# Altium integrated library Linear Technology Power Management Switching Regulator LT1074-LT8705.IntLib: 2252 symbols (part 132 of 148)
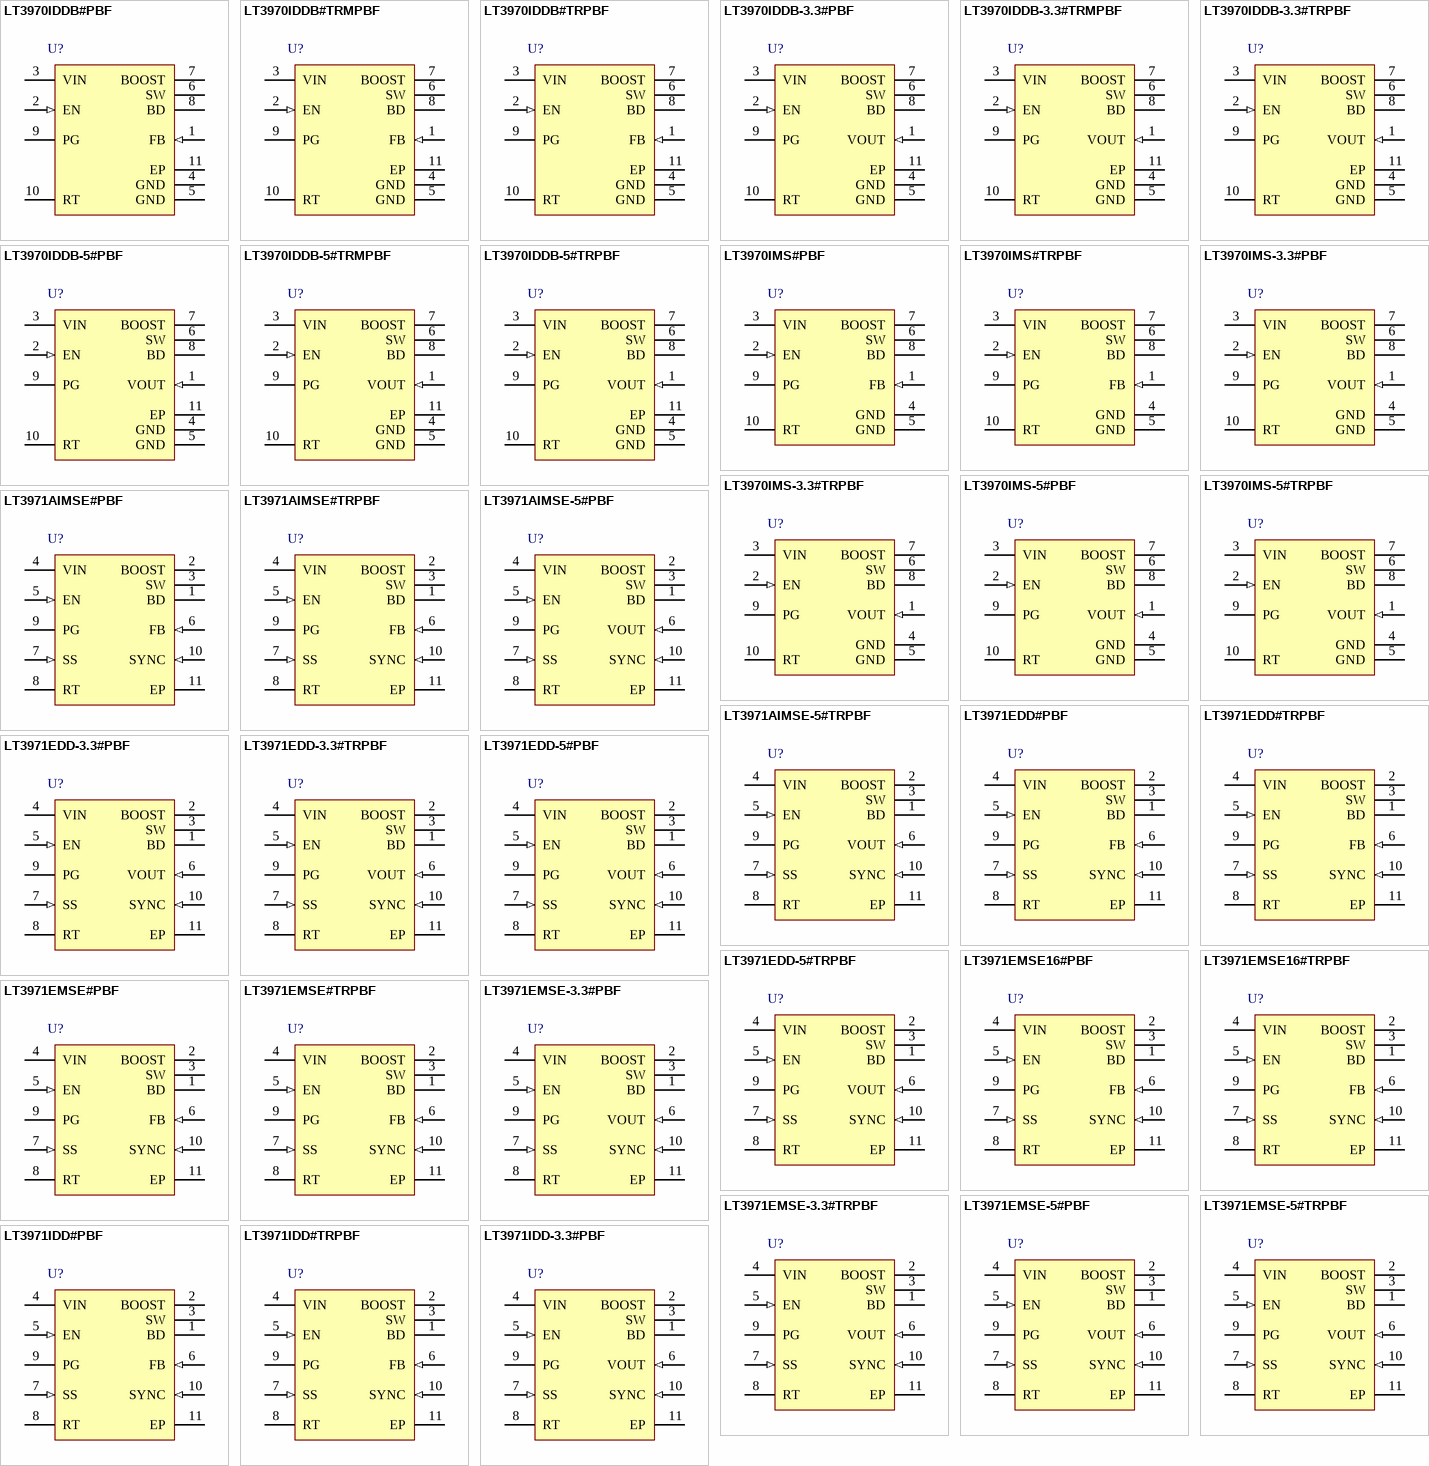
[diagram p202: symbols LT3970IDDB#PBF to LT3971IDD-3.3#PBF]

## LT3971AIMSE-5#PBF
designator U?
1.3 A, 2 MHz Step-Down Regulator with 2.2 uA Quiescent Current, 10-pin SOP (MSE-10-EDP), -40 to 125 degC, Pb-Free; Manufacturer: Linear Technology; PartNumber: LT3971AIMSE-5#PBF; Frequency Adjust Range: 200kHz - 2MHz; Number of Outputs: 1; PackageVersion: Rev. I, 05/2013; PackageReference: MSE-10; PackageDescription: 10-Pin Plastic MSOP, Exposed Die Pad, Body 3 x 3 mm, Pitch 0.5 mm; Supplier 1: Digi-Key; Supplier Part Number 1: LT3971AIMSE-5#PBF-ND; RoHS: TRUE; Mounting Technology: Surface Mount; ComponentLink1Description: Manufacturer URL; ComponentLink1URL: http://www.linear.com/; ComponentLink2Description: Datasheet; ComponentLink2URL: http://cds.linear.com/docs/en/datasheet/3971af.pdf; ComponentLink3Description: Package Specification; ComponentLink3URL: http://cds.linear.com/docs/en/packaging/05081664_I_MSE.pdf
footprint LT-MSE-10-EDP_N (SOP, 10-Leads, Body 3.1x3.1mm, Pitch 0.5mm, Thermal Pad 1.88x1.68mm, IPC Medium Density)
footprint LT-MSE-10-EDP_L (SOP, 10-Leads, Body 3.1x3.1mm, Pitch 0.5mm, Thermal Pad 1.88x1.68mm, IPC High Density)
footprint LT-MSE-10-EDP_M (SOP, 10-Leads, Body 3.1x3.1mm, Pitch 0.5mm, Thermal Pad 1.88x1.68mm, IPC Low Density)
pins: 1 BD (power) "This pin connects to the anode of the boost diode. The BD pin is normally connected to the output.", 2 BOOST "This pin is used to provide a drive voltage, higher than the input voltage, to the internal bipolar NPN power switch.", 3 SW (power) "The SW pin is the output of an internal power switch. Connect this pin to the inductor, catch diode, and boost capacitor.", 4 VIN (power) "The VIN pin supplies current to the LT3971’s internal circuitry and to the internal power switch. This pin must be locally bypassed.", 5 EN (in) "The part is in shutdown when this pin is low and active when this pin is high. The hysteretic threshold voltage is 1.005V going up and 0.975V going down. The EN threshold is only accurate when VIN is above 4.3V. If VIN is (See Datasheet)", 6 VOUT (in) "The LT3971-3.3 and LT3971-5 regulate the VOUT pin to 3.3V and 5V respectively. This pin connects to the internal 10Mohm feedback divider that programs the fixed output voltage.", 7 SS (in) "A capacitor is tied between SS and ground to slowly ramp up the peak current limit of the LT3971 on start-up. The soft-start capacitor is only actively discharged when EN is low. The SS pin is released when the EN pin goes (See Datasheet)", 8 RT "A resistor is tied between RT and ground to set the switching frequency.", 9 PG (oc) "The PG pin is the open-drain output of an internal comparator. PGOOD remains low until the FB pin is within 9% of the final regulation voltage. PGOOD is valid when the LT3971 is enabled and VIN is above 4.3V.", 10 SYNC (in) "This is the external clock synchronization input. Ground this pin for low ripple Burst Mode operation at low output loads. Tie to a clock source for synchronization, which will include pulse-skipping at low output loads. (See Datasheet)", 11 EP (power) "Ground. The exposed pad must be soldered to PCB."

## LT3971AIMSE-5#TRPBF
designator U?
1.3 A, 2 MHz Step-Down Regulator with 2.2 uA Quiescent Current, 10-pin SOP (MSE-10-EDP), -40 to 125 degC, Pb-Free, Tape and Reel; Manufacturer: Linear Technology; PartNumber: LT3971AIMSE-5#TRPBF; Frequency Adjust Range: 200kHz - 2MHz; Number of Outputs: 1; PackageVersion: Rev. I, 05/2013; PackageReference: MSE-10; PackageDescription: 10-Pin Plastic MSOP, Exposed Die Pad, Body 3 x 3 mm, Pitch 0.5 mm; Supplier 1: Digi-Key; Supplier Part Number 1: LT3971AIMSE-5#TRPBF-ND; Packing: Tape and Reel; RoHS: TRUE; Mounting Technology: Surface Mount; ComponentLink1Description: Manufacturer URL; ComponentLink1URL: http://www.linear.com/; ComponentLink2Description: Datasheet; ComponentLink2URL: http://cds.linear.com/docs/en/datasheet/3971af.pdf; ComponentLink3Description: Package Specification; ComponentLink3URL: http://cds.linear.com/docs/en/packaging/05081664_I_MSE.pdf
footprint LT-MSE-10-EDP_N (SOP, 10-Leads, Body 3.1x3.1mm, Pitch 0.5mm, Thermal Pad 1.88x1.68mm, IPC Medium Density)
footprint LT-MSE-10-EDP_L (SOP, 10-Leads, Body 3.1x3.1mm, Pitch 0.5mm, Thermal Pad 1.88x1.68mm, IPC High Density)
footprint LT-MSE-10-EDP_M (SOP, 10-Leads, Body 3.1x3.1mm, Pitch 0.5mm, Thermal Pad 1.88x1.68mm, IPC Low Density)
pins: 1 BD (power) "This pin connects to the anode of the boost diode. The BD pin is normally connected to the output.", 2 BOOST "This pin is used to provide a drive voltage, higher than the input voltage, to the internal bipolar NPN power switch.", 3 SW (power) "The SW pin is the output of an internal power switch. Connect this pin to the inductor, catch diode, and boost capacitor.", 4 VIN (power) "The VIN pin supplies current to the LT3971’s internal circuitry and to the internal power switch. This pin must be locally bypassed.", 5 EN (in) "The part is in shutdown when this pin is low and active when this pin is high. The hysteretic threshold voltage is 1.005V going up and 0.975V going down. The EN threshold is only accurate when VIN is above 4.3V. If VIN is (See Datasheet)", 6 VOUT (in) "The LT3971-3.3 and LT3971-5 regulate the VOUT pin to 3.3V and 5V respectively. This pin connects to the internal 10Mohm feedback divider that programs the fixed output voltage.", 7 SS (in) "A capacitor is tied between SS and ground to slowly ramp up the peak current limit of the LT3971 on start-up. The soft-start capacitor is only actively discharged when EN is low. The SS pin is released when the EN pin goes (See Datasheet)", 8 RT "A resistor is tied between RT and ground to set the switching frequency.", 9 PG (oc) "The PG pin is the open-drain output of an internal comparator. PGOOD remains low until the FB pin is within 9% of the final regulation voltage. PGOOD is valid when the LT3971 is enabled and VIN is above 4.3V.", 10 SYNC (in) "This is the external clock synchronization input. Ground this pin for low ripple Burst Mode operation at low output loads. Tie to a clock source for synchronization, which will include pulse-skipping at low output loads. (See Datasheet)", 11 EP (power) "Ground. The exposed pad must be soldered to PCB."

## LT3971EDD#PBF
designator U?
1.2 A, 2 MHz Step-Down Regulator with 2.8 uA Quiescent Current, 10-pin SON (DD-10), -40 to 125 degC, Pb-Free; Manufacturer: Linear Technology; PartNumber: LT3971EDD#PBF; Frequency Adjust Range: 200kHz - 2MHz; Number of Outputs: 1; DatasheetVersion: Rev. D; PackageVersion: Rev. C, 06/2010; PackageReference: DD-10; PackageDescription: 10-Pin Plastic DFN, Body 3 x 3 mm, Pitch 0.5 mm; Supplier 1: Digi-Key; Supplier Part Number 1: LT3971EDD#PBF-ND; Supplier 2: Farnell; Supplier Part Number 2: 1839164; Supplier 3: Newark; Supplier Part Number 3: 53R1596; RoHS: TRUE; Mounting Technology: Surface Mount; Code_JEDEC: MO-229; ComponentLink1Description: Manufacturer URL; ComponentLink1URL: http://www.linear.com/; ComponentLink2Description: Datasheet; ComponentLink2URL: http://cds.linear.com/docs/en/datasheet/3971fd.pdf; ComponentLink3Description: Package Specification; ComponentLink3URL: http://cds.linear.com/docs/en/packaging/DFN_10_05-08-1699.pdf
footprint LT-DD-10_V (SON, 10-Leads, Body 3x3mm, Pitch 0.5mm, Thermal Pad 2.38x1.65mm)
pins: 1 BD (power) "This pin connects to the anode of the boost diode. The BD pin is normally connected to the output.", 2 BOOST "This pin is used to provide a drive voltage, higher than the input voltage, to the internal bipolar NPN power switch.", 3 SW (power) "The SW pin is the output of an internal power switch. Connect this pin to the inductor, catch diode, and boost capacitor.", 4 VIN (power), 5 EN (in), 6 FB (in), 7 SS (in), 8 RT "A resistor is tied between RT and ground to set the switching frequency.", 9 PG (oc), 10 SYNC (in) "This is the external clock synchronization input. Ground this pin for low ripple Burst Mode operation at low output loads. Tie to a clock source for synchronization, which will include pulse-skipping at low output loads. (See Datasheet)", 11 EP (power) "Ground. The exposed pad must be soldered to PCB."

## LT3971EDD#TRPBF
designator U?
1.2 A, 2 MHz Step-Down Regulator with 2.8 uA Quiescent Current, 10-pin SON (DD-10), -40 to 125 degC, Pb-Free, Tape and Reel; Manufacturer: Linear Technology; PartNumber: LT3971EDD#TRPBF; Frequency Adjust Range: 200kHz - 2MHz; Number of Outputs: 1; DatasheetVersion: Rev. D; PackageVersion: Rev. C, 06/2010; PackageReference: DD-10; PackageDescription: 10-Pin Plastic DFN, Body 3 x 3 mm, Pitch 0.5 mm; Supplier 1: Digi-Key; Supplier Part Number 1: LT3971EDD#TRPBF-ND; Supplier 2: Newark; Supplier Part Number 2: 13T8581; Packing: Tape and Reel; RoHS: TRUE; Mounting Technology: Surface Mount; Code_JEDEC: MO-229; ComponentLink1Description: Manufacturer URL; ComponentLink1URL: http://www.linear.com/; ComponentLink2Description: Datasheet; ComponentLink2URL: http://cds.linear.com/docs/en/datasheet/3971fd.pdf; ComponentLink3Description: Package Specification; ComponentLink3URL: http://cds.linear.com/docs/en/packaging/DFN_10_05-08-1699.pdf
footprint LT-DD-10_V (SON, 10-Leads, Body 3x3mm, Pitch 0.5mm, Thermal Pad 2.38x1.65mm)
pins: 1 BD (power) "This pin connects to the anode of the boost diode. The BD pin is normally connected to the output.", 2 BOOST "This pin is used to provide a drive voltage, higher than the input voltage, to the internal bipolar NPN power switch.", 3 SW (power) "The SW pin is the output of an internal power switch. Connect this pin to the inductor, catch diode, and boost capacitor.", 4 VIN (power), 5 EN (in), 6 FB (in), 7 SS (in), 8 RT "A resistor is tied between RT and ground to set the switching frequency.", 9 PG (oc), 10 SYNC (in) "This is the external clock synchronization input. Ground this pin for low ripple Burst Mode operation at low output loads. Tie to a clock source for synchronization, which will include pulse-skipping at low output loads. (See Datasheet)", 11 EP (power) "Ground. The exposed pad must be soldered to PCB."

## LT3971EDD-3.3#PBF
designator U?
1.2 A, 2 MHz Step-Down Regulator with 2.8 uA Quiescent Current, 10-pin SON (DD-10), -40 to 125 degC, Pb-Free; Manufacturer: Linear Technology; PartNumber: LT3971EDD-3.3#PBF; Frequency Adjust Range: 200kHz - 2MHz; Number of Outputs: 1; DatasheetVersion: Rev. D; PackageVersion: Rev. C, 06/2010; PackageReference: DD-10; PackageDescription: 10-Pin Plastic DFN, Body 3 x 3 mm, Pitch 0.5 mm; Supplier 1: Digi-Key; Supplier Part Number 1: LT3971EDD-3.3#PBF-ND; RoHS: TRUE; Mounting Technology: Surface Mount; Code_JEDEC: MO-229; ComponentLink1Description: Manufacturer URL; ComponentLink1URL: http://www.linear.com/; ComponentLink2Description: Datasheet; ComponentLink2URL: http://cds.linear.com/docs/en/datasheet/3971fd.pdf; ComponentLink3Description: Package Specification; ComponentLink3URL: http://cds.linear.com/docs/en/packaging/DFN_10_05-08-1699.pdf
footprint LT-DD-10_V (SON, 10-Leads, Body 3x3mm, Pitch 0.5mm, Thermal Pad 2.38x1.65mm)
pins: 1 BD (power) "This pin connects to the anode of the boost diode. The BD pin is normally connected to the output.", 2 BOOST "This pin is used to provide a drive voltage, higher than the input voltage, to the internal bipolar NPN power switch.", 3 SW (power) "The SW pin is the output of an internal power switch. Connect this pin to the inductor, catch diode, and boost capacitor.", 4 VIN (power) "The VIN pin supplies current to the LT3971’s internal circuitry and to the internal power switch. This pin must be locally bypassed.", 5 EN (in) "The part is in shutdown when this pin is low and active when this pin is high. The hysteretic threshold voltage is 1.005V going up and 0.975V going down. The EN threshold is only accurate when VIN is above 4.3V. If VIN is (See Datasheet)", 6 VOUT (in) "The LT3971-3.3 and LT3971-5 regulate the VOUT pin to 3.3V and 5V respectively. This pin connects to the internal 10Mohm feedback divider that programs the fixed output voltage.", 7 SS (in) "A capacitor is tied between SS and ground to slowly ramp up the peak current limit of the LT3971 on start-up. The soft-start capacitor is only actively discharged when EN is low. The SS pin is released when the EN pin goes (See Datasheet)", 8 RT "A resistor is tied between RT and ground to set the switching frequency.", 9 PG (oc) "The PG pin is the open-drain output of an internal comparator. PGOOD remains low until the FB pin is within 9% of the final regulation voltage. PGOOD is valid when the LT3971 is enabled and VIN is above 4.3V.", 10 SYNC (in) "This is the external clock synchronization input. Ground this pin for low ripple Burst Mode operation at low output loads. Tie to a clock source for synchronization, which will include pulse-skipping at low output loads. (See Datasheet)", 11 EP (power) "Ground. The exposed pad must be soldered to PCB."

## LT3971EDD-3.3#TRPBF
designator U?
1.2 A, 2 MHz Step-Down Regulator with 2.8 uA Quiescent Current, 10-pin SON (DD-10), -40 to 125 degC, Pb-Free, Tape and Reel; Manufacturer: Linear Technology; PartNumber: LT3971EDD-3.3#TRPBF; Frequency Adjust Range: 200kHz - 2MHz; Number of Outputs: 1; DatasheetVersion: Rev. D; PackageVersion: Rev. C, 06/2010; PackageReference: DD-10; PackageDescription: 10-Pin Plastic DFN, Body 3 x 3 mm, Pitch 0.5 mm; Supplier 1: Digi-Key; Supplier Part Number 1: LT3971EDD-3.3#TRPBF-ND; Packing: Tape and Reel; RoHS: TRUE; Mounting Technology: Surface Mount; Code_JEDEC: MO-229; ComponentLink1Description: Manufacturer URL; ComponentLink1URL: http://www.linear.com/; ComponentLink2Description: Datasheet; ComponentLink2URL: http://cds.linear.com/docs/en/datasheet/3971fd.pdf; ComponentLink3Description: Package Specification; ComponentLink3URL: http://cds.linear.com/docs/en/packaging/DFN_10_05-08-1699.pdf
footprint LT-DD-10_V (SON, 10-Leads, Body 3x3mm, Pitch 0.5mm, Thermal Pad 2.38x1.65mm)
pins: 1 BD (power) "This pin connects to the anode of the boost diode. The BD pin is normally connected to the output.", 2 BOOST "This pin is used to provide a drive voltage, higher than the input voltage, to the internal bipolar NPN power switch.", 3 SW (power) "The SW pin is the output of an internal power switch. Connect this pin to the inductor, catch diode, and boost capacitor.", 4 VIN (power) "The VIN pin supplies current to the LT3971’s internal circuitry and to the internal power switch. This pin must be locally bypassed.", 5 EN (in) "The part is in shutdown when this pin is low and active when this pin is high. The hysteretic threshold voltage is 1.005V going up and 0.975V going down. The EN threshold is only accurate when VIN is above 4.3V. If VIN is (See Datasheet)", 6 VOUT (in) "The LT3971-3.3 and LT3971-5 regulate the VOUT pin to 3.3V and 5V respectively. This pin connects to the internal 10Mohm feedback divider that programs the fixed output voltage.", 7 SS (in) "A capacitor is tied between SS and ground to slowly ramp up the peak current limit of the LT3971 on start-up. The soft-start capacitor is only actively discharged when EN is low. The SS pin is released when the EN pin goes (See Datasheet)", 8 RT "A resistor is tied between RT and ground to set the switching frequency.", 9 PG (oc) "The PG pin is the open-drain output of an internal comparator. PGOOD remains low until the FB pin is within 9% of the final regulation voltage. PGOOD is valid when the LT3971 is enabled and VIN is above 4.3V.", 10 SYNC (in) "This is the external clock synchronization input. Ground this pin for low ripple Burst Mode operation at low output loads. Tie to a clock source for synchronization, which will include pulse-skipping at low output loads. (See Datasheet)", 11 EP (power) "Ground. The exposed pad must be soldered to PCB."

## LT3971EDD-5#PBF
designator U?
1.2 A, 2 MHz Step-Down Regulator with 2.8 uA Quiescent Current, 10-pin SON (DD-10), -40 to 125 degC, Pb-Free; Manufacturer: Linear Technology; PartNumber: LT3971EDD-5#PBF; Frequency Adjust Range: 200kHz - 2MHz; Number of Outputs: 1; DatasheetVersion: Rev. D; PackageVersion: Rev. C, 06/2010; PackageReference: DD-10; PackageDescription: 10-Pin Plastic DFN, Body 3 x 3 mm, Pitch 0.5 mm; Supplier 1: Digi-Key; Supplier Part Number 1: LT3971EDD-5#PBF-ND; Supplier 2: Newark; Supplier Part Number 2: 78T4069; RoHS: TRUE; Mounting Technology: Surface Mount; Code_JEDEC: MO-229; ComponentLink1Description: Manufacturer URL; ComponentLink1URL: http://www.linear.com/; ComponentLink2Description: Datasheet; ComponentLink2URL: http://cds.linear.com/docs/en/datasheet/3971fd.pdf; ComponentLink3Description: Package Specification; ComponentLink3URL: http://cds.linear.com/docs/en/packaging/DFN_10_05-08-1699.pdf
footprint LT-DD-10_V (SON, 10-Leads, Body 3x3mm, Pitch 0.5mm, Thermal Pad 2.38x1.65mm)
pins: 1 BD (power) "This pin connects to the anode of the boost diode. The BD pin is normally connected to the output.", 2 BOOST "This pin is used to provide a drive voltage, higher than the input voltage, to the internal bipolar NPN power switch.", 3 SW (power) "The SW pin is the output of an internal power switch. Connect this pin to the inductor, catch diode, and boost capacitor.", 4 VIN (power) "The VIN pin supplies current to the LT3971’s internal circuitry and to the internal power switch. This pin must be locally bypassed.", 5 EN (in) "The part is in shutdown when this pin is low and active when this pin is high. The hysteretic threshold voltage is 1.005V going up and 0.975V going down. The EN threshold is only accurate when VIN is above 4.3V. If VIN is (See Datasheet)", 6 VOUT (in) "The LT3971?3.3 and LT3971-5 regulate the VOUT pin to 3.3V and 5V respectively. This pin connects to the internal 10Mohm feedback divider that programs the fixed output voltage.", 7 SS (in) "A capacitor is tied between SS and ground to slowly ramp up the peak current limit of the LT3971 on start-up. The soft-start capacitor is only actively discharged when EN is low. The SS pin is released when the EN pin goes (See Datasheet)", 8 RT "A resistor is tied between RT and ground to set the switching frequency.", 9 PG (oc) "The PG pin is the open-drain output of an internal comparator. PGOOD remains low until the FB pin is within 9% of the final regulation voltage. PGOOD is valid when the LT3971 is enabled and VIN is above 4.3V.", 10 SYNC (in) "This is the external clock synchronization input. Ground this pin for low ripple Burst Mode operation at low output loads. Tie to a clock source for synchronization, which will include pulse-skipping at low output loads. (See Datasheet)", 11 EP (power) "Ground. The exposed pad must be soldered to PCB."

## LT3971EDD-5#TRPBF
designator U?
1.2 A, 2 MHz Step-Down Regulator with 2.8 uA Quiescent Current, 10-pin SON (DD-10), -40 to 125 degC, Pb-Free, Tape and Reel; Manufacturer: Linear Technology; PartNumber: LT3971EDD-5#TRPBF; Frequency Adjust Range: 200kHz - 2MHz; Number of Outputs: 1; DatasheetVersion: Rev. D; PackageVersion: Rev. C, 06/2010; PackageReference: DD-10; PackageDescription: 10-Pin Plastic DFN, Body 3 x 3 mm, Pitch 0.5 mm; Supplier 1: Digi-Key; Supplier Part Number 1: LT3971EDD-5#TRPBF-ND; Packing: Tape and Reel; RoHS: TRUE; Mounting Technology: Surface Mount; Code_JEDEC: MO-229; ComponentLink1Description: Manufacturer URL; ComponentLink1URL: http://www.linear.com/; ComponentLink2Description: Datasheet; ComponentLink2URL: http://cds.linear.com/docs/en/datasheet/3971fd.pdf; ComponentLink3Description: Package Specification; ComponentLink3URL: http://cds.linear.com/docs/en/packaging/DFN_10_05-08-1699.pdf
footprint LT-DD-10_V (SON, 10-Leads, Body 3x3mm, Pitch 0.5mm, Thermal Pad 2.38x1.65mm)
pins: 1 BD (power) "This pin connects to the anode of the boost diode. The BD pin is normally connected to the output.", 2 BOOST "This pin is used to provide a drive voltage, higher than the input voltage, to the internal bipolar NPN power switch.", 3 SW (power) "The SW pin is the output of an internal power switch. Connect this pin to the inductor, catch diode, and boost capacitor.", 4 VIN (power) "The VIN pin supplies current to the LT3971’s internal circuitry and to the internal power switch. This pin must be locally bypassed.", 5 EN (in) "The part is in shutdown when this pin is low and active when this pin is high. The hysteretic threshold voltage is 1.005V going up and 0.975V going down. The EN threshold is only accurate when VIN is above 4.3V. If VIN is (See Datasheet)", 6 VOUT (in) "The LT3971?3.3 and LT3971-5 regulate the VOUT pin to 3.3V and 5V respectively. This pin connects to the internal 10Mohm feedback divider that programs the fixed output voltage.", 7 SS (in) "A capacitor is tied between SS and ground to slowly ramp up the peak current limit of the LT3971 on start-up. The soft-start capacitor is only actively discharged when EN is low. The SS pin is released when the EN pin goes (See Datasheet)", 8 RT "A resistor is tied between RT and ground to set the switching frequency.", 9 PG (oc) "The PG pin is the open-drain output of an internal comparator. PGOOD remains low until the FB pin is within 9% of the final regulation voltage. PGOOD is valid when the LT3971 is enabled and VIN is above 4.3V.", 10 SYNC (in) "This is the external clock synchronization input. Ground this pin for low ripple Burst Mode operation at low output loads. Tie to a clock source for synchronization, which will include pulse-skipping at low output loads. (See Datasheet)", 11 EP (power) "Ground. The exposed pad must be soldered to PCB."

## LT3971EMSE16#PBF
designator U?
1.2 A, 2 MHz Step-Down Regulator with 2.8 uA Quiescent Current, 16-pin SOP (MSE-16-EDP), -40 to 125 degC, Pb-Free; Manufacturer: Linear Technology; PartNumber: LT3971EMSE16#PBF; Frequency Adjust Range: 200kHz - 2MHz; Number of Outputs: 1; DatasheetVersion: Rev. D; PackageVersion: Rev. F, 05/2013; PackageReference: MSE-16; PackageDescription: 16-Pin Plastic MSOP, Exposed Die Pad, Body 4.039 x 3 mm, Pitch 0.5 mm; Supplier 1: Digi-Key; Supplier Part Number 1: LT3971EMSE16#PBF-ND; Supplier 2: Farnell; Supplier Part Number 2: 2145072; Supplier 3: Newark; Supplier Part Number 3: 24W8533; RoHS: TRUE; Mounting Technology: Surface Mount; ComponentLink1Description: Manufacturer URL; ComponentLink1URL: http://www.linear.com/; ComponentLink2Description: Datasheet; ComponentLink2URL: http://cds.linear.com/docs/en/datasheet/3971fd.pdf; ComponentLink3Description: Package Specification; ComponentLink3URL: http://cds.linear.com/docs/en/packaging/05081667_F_MSE16.pdf
footprint LT-MSE-16-EDP_N (SOP, 16-Leads, Body 4.1x3.1mm, Pitch 0.5mm, Thermal Pad 2.95x1.76mm, IPC Medium Density)
footprint LT-MSE-16-EDP_L (SOP, 16-Leads, Body 4.1x3.1mm, Pitch 0.5mm, Thermal Pad 2.95x1.76mm, IPC High Density)
footprint LT-MSE-16-EDP_M (SOP, 16-Leads, Body 4.1x3.1mm, Pitch 0.5mm, Thermal Pad 2.95x1.76mm, IPC Low Density)
pins: 1 BD (power) "This pin connects to the anode of the boost diode. The BD pin is normally connected to the output.", 2 BOOST "This pin is used to provide a drive voltage, higher than the input voltage, to the internal bipolar NPN power switch.", 3 SW (power) "The SW pin is the output of an internal power switch. Connect this pin to the inductor, catch diode, and boost capacitor.", 4 VIN (power), 5 EN (in), 6 FB (in), 7 SS (in), 8 RT "A resistor is tied between RT and ground to set the switching frequency.", 9 PG (oc), 10 SYNC (in) "This is the external clock synchronization input. Ground this pin for low ripple Burst Mode operation at low output loads. Tie to a clock source for synchronization, which will include pulse-skipping at low output loads. (See Datasheet)", 11 EP (power) "Ground. The exposed pad must be soldered to PCB."

## LT3971EMSE16#TRPBF
designator U?
1.2 A, 2 MHz Step-Down Regulator with 2.8 uA Quiescent Current, 16-pin SOP (MSE-16-EDP), -40 to 125 degC, Pb-Free, Tape and Reel; Manufacturer: Linear Technology; PartNumber: LT3971EMSE16#TRPBF; Frequency Adjust Range: 200kHz - 2MHz; Number of Outputs: 1; DatasheetVersion: Rev. D; PackageVersion: Rev. F, 05/2013; PackageReference: MSE-16; PackageDescription: 16-Pin Plastic MSOP, Exposed Die Pad, Body 4.039 x 3 mm, Pitch 0.5 mm; Supplier 1: Digi-Key; Supplier Part Number 1: LT3971EMSE16#TRPBF-ND; Supplier 2: Newark; Supplier Part Number 2: 24W8534; Packing: Tape and Reel; RoHS: TRUE; Mounting Technology: Surface Mount; ComponentLink1Description: Manufacturer URL; ComponentLink1URL: http://www.linear.com/; ComponentLink2Description: Datasheet; ComponentLink2URL: http://cds.linear.com/docs/en/datasheet/3971fd.pdf; ComponentLink3Description: Package Specification; ComponentLink3URL: http://cds.linear.com/docs/en/packaging/05081667_F_MSE16.pdf
footprint LT-MSE-16-EDP_N (SOP, 16-Leads, Body 4.1x3.1mm, Pitch 0.5mm, Thermal Pad 2.95x1.76mm, IPC Medium Density)
footprint LT-MSE-16-EDP_L (SOP, 16-Leads, Body 4.1x3.1mm, Pitch 0.5mm, Thermal Pad 2.95x1.76mm, IPC High Density)
footprint LT-MSE-16-EDP_M (SOP, 16-Leads, Body 4.1x3.1mm, Pitch 0.5mm, Thermal Pad 2.95x1.76mm, IPC Low Density)
pins: 1 BD (power) "This pin connects to the anode of the boost diode. The BD pin is normally connected to the output.", 2 BOOST "This pin is used to provide a drive voltage, higher than the input voltage, to the internal bipolar NPN power switch.", 3 SW (power) "The SW pin is the output of an internal power switch. Connect this pin to the inductor, catch diode, and boost capacitor.", 4 VIN (power), 5 EN (in), 6 FB (in), 7 SS (in), 8 RT "A resistor is tied between RT and ground to set the switching frequency.", 9 PG (oc), 10 SYNC (in) "This is the external clock synchronization input. Ground this pin for low ripple Burst Mode operation at low output loads. Tie to a clock source for synchronization, which will include pulse-skipping at low output loads. (See Datasheet)", 11 EP (power) "Ground. The exposed pad must be soldered to PCB."

## LT3971EMSE#PBF
designator U?
1.2 A, 2 MHz Step-Down Regulator with 2.8 uA Quiescent Current, 10-pin SOP (MSE-10-EDP), -40 to 125 degC, Pb-Free; Manufacturer: Linear Technology; PartNumber: LT3971EMSE#PBF; Frequency Adjust Range: 200kHz - 2MHz; Number of Outputs: 1; DatasheetVersion: Rev. D; PackageVersion: Rev. I, 05/2013; PackageReference: MSE-10; PackageDescription: 10-Pin Plastic MSOP, Exposed Die Pad, Body 3 x 3 mm, Pitch 0.5 mm; Supplier 1: Digi-Key; Supplier Part Number 1: LT3971EMSE#PBF-ND; Supplier 2: Farnell; Supplier Part Number 2: 1839165; Supplier 3: Newark; Supplier Part Number 3: 53R1597; RoHS: TRUE; Mounting Technology: Surface Mount; ComponentLink1Description: Manufacturer URL; ComponentLink1URL: http://www.linear.com/; ComponentLink2Description: Datasheet; ComponentLink2URL: http://cds.linear.com/docs/en/datasheet/3971fd.pdf; ComponentLink3Description: Package Specification; ComponentLink3URL: http://cds.linear.com/docs/en/packaging/05081664_I_MSE.pdf
footprint LT-MSE-10-EDP_N (SOP, 10-Leads, Body 3.1x3.1mm, Pitch 0.5mm, Thermal Pad 1.88x1.68mm, IPC Medium Density)
footprint LT-MSE-10-EDP_L (SOP, 10-Leads, Body 3.1x3.1mm, Pitch 0.5mm, Thermal Pad 1.88x1.68mm, IPC High Density)
footprint LT-MSE-10-EDP_M (SOP, 10-Leads, Body 3.1x3.1mm, Pitch 0.5mm, Thermal Pad 1.88x1.68mm, IPC Low Density)
pins: 1 BD (power) "This pin connects to the anode of the boost diode. The BD pin is normally connected to the output.", 2 BOOST "This pin is used to provide a drive voltage, higher than the input voltage, to the internal bipolar NPN power switch.", 3 SW (power) "The SW pin is the output of an internal power switch. Connect this pin to the inductor, catch diode, and boost capacitor.", 4 VIN (power), 5 EN (in), 6 FB (in), 7 SS (in), 8 RT "A resistor is tied between RT and ground to set the switching frequency.", 9 PG (oc), 10 SYNC (in) "This is the external clock synchronization input. Ground this pin for low ripple Burst Mode operation at low output loads. Tie to a clock source for synchronization, which will include pulse-skipping at low output loads. (See Datasheet)", 11 EP (power) "Ground. The exposed pad must be soldered to PCB."

## LT3971EMSE#TRPBF
designator U?
1.2 A, 2 MHz Step-Down Regulator with 2.8 uA Quiescent Current, 10-pin SOP (MSE-10-EDP), -40 to 125 degC, Pb-Free, Tape and Reel; Manufacturer: Linear Technology; PartNumber: LT3971EMSE#TRPBF; Frequency Adjust Range: 200kHz - 2MHz; Number of Outputs: 1; DatasheetVersion: Rev. D; PackageVersion: Rev. I, 05/2013; PackageReference: MSE-10; PackageDescription: 10-Pin Plastic MSOP, Exposed Die Pad, Body 3 x 3 mm, Pitch 0.5 mm; Supplier 1: Digi-Key; Supplier Part Number 1: LT3971EMSE#TRPBF-ND; Packing: Tape and Reel; RoHS: TRUE; Mounting Technology: Surface Mount; ComponentLink1Description: Manufacturer URL; ComponentLink1URL: http://www.linear.com/; ComponentLink2Description: Datasheet; ComponentLink2URL: http://cds.linear.com/docs/en/datasheet/3971fd.pdf; ComponentLink3Description: Package Specification; ComponentLink3URL: http://cds.linear.com/docs/en/packaging/05081664_I_MSE.pdf
footprint LT-MSE-10-EDP_N (SOP, 10-Leads, Body 3.1x3.1mm, Pitch 0.5mm, Thermal Pad 1.88x1.68mm, IPC Medium Density)
footprint LT-MSE-10-EDP_L (SOP, 10-Leads, Body 3.1x3.1mm, Pitch 0.5mm, Thermal Pad 1.88x1.68mm, IPC High Density)
footprint LT-MSE-10-EDP_M (SOP, 10-Leads, Body 3.1x3.1mm, Pitch 0.5mm, Thermal Pad 1.88x1.68mm, IPC Low Density)
pins: 1 BD (power) "This pin connects to the anode of the boost diode. The BD pin is normally connected to the output.", 2 BOOST "This pin is used to provide a drive voltage, higher than the input voltage, to the internal bipolar NPN power switch.", 3 SW (power) "The SW pin is the output of an internal power switch. Connect this pin to the inductor, catch diode, and boost capacitor.", 4 VIN (power), 5 EN (in), 6 FB (in), 7 SS (in), 8 RT "A resistor is tied between RT and ground to set the switching frequency.", 9 PG (oc), 10 SYNC (in) "This is the external clock synchronization input. Ground this pin for low ripple Burst Mode operation at low output loads. Tie to a clock source for synchronization, which will include pulse-skipping at low output loads. (See Datasheet)", 11 EP (power) "Ground. The exposed pad must be soldered to PCB."

## LT3971EMSE-3.3#PBF
designator U?
1.2 A, 2 MHz Step-Down Regulator with 2.8 uA Quiescent Current, 10-pin SOP (MSE-10-EDP), -40 to 125 degC, Pb-Free; Manufacturer: Linear Technology; PartNumber: LT3971EMSE-3.3#PBF; Frequency Adjust Range: 200kHz - 2MHz; Number of Outputs: 1; DatasheetVersion: Rev. D; PackageVersion: Rev. I, 05/2013; PackageReference: MSE-10; PackageDescription: 10-Pin Plastic MSOP, Exposed Die Pad, Body 3 x 3 mm, Pitch 0.5 mm; Supplier 1: Digi-Key; Supplier Part Number 1: LT3971EMSE-3.3#PBF-ND; Supplier 2: Farnell; Supplier Part Number 2: 1867528; Supplier 3: Newark; Supplier Part Number 3: 24T2756; Supplier 4: Newark; Supplier Part Number 4: 95W2789; RoHS: TRUE; Mounting Technology: Surface Mount; ComponentLink1Description: Manufacturer URL; ComponentLink1URL: http://www.linear.com/; ComponentLink2Description: Datasheet; ComponentLink2URL: http://cds.linear.com/docs/en/datasheet/3971fd.pdf; ComponentLink3Description: Package Specification; ComponentLink3URL: http://cds.linear.com/docs/en/packaging/05081664_I_MSE.pdf
footprint LT-MSE-10-EDP_N (SOP, 10-Leads, Body 3.1x3.1mm, Pitch 0.5mm, Thermal Pad 1.88x1.68mm, IPC Medium Density)
footprint LT-MSE-10-EDP_L (SOP, 10-Leads, Body 3.1x3.1mm, Pitch 0.5mm, Thermal Pad 1.88x1.68mm, IPC High Density)
footprint LT-MSE-10-EDP_M (SOP, 10-Leads, Body 3.1x3.1mm, Pitch 0.5mm, Thermal Pad 1.88x1.68mm, IPC Low Density)
pins: 1 BD (power) "This pin connects to the anode of the boost diode. The BD pin is normally connected to the output.", 2 BOOST "This pin is used to provide a drive voltage, higher than the input voltage, to the internal bipolar NPN power switch.", 3 SW (power) "The SW pin is the output of an internal power switch. Connect this pin to the inductor, catch diode, and boost capacitor.", 4 VIN (power) "The VIN pin supplies current to the LT3971’s internal circuitry and to the internal power switch. This pin must be locally bypassed.", 5 EN (in) "The part is in shutdown when this pin is low and active when this pin is high. The hysteretic threshold voltage is 1.005V going up and 0.975V going down. The EN threshold is only accurate when VIN is above 4.3V. If VIN is (See Datasheet)", 6 VOUT (in) "The LT3971-3.3 and LT3971-5 regulate the VOUT pin to 3.3V and 5V respectively. This pin connects to the internal 10Mohm feedback divider that programs the fixed output voltage.", 7 SS (in) "A capacitor is tied between SS and ground to slowly ramp up the peak current limit of the LT3971 on start-up. The soft-start capacitor is only actively discharged when EN is low. The SS pin is released when the EN pin goes (See Datasheet)", 8 RT "A resistor is tied between RT and ground to set the switching frequency.", 9 PG (oc) "The PG pin is the open-drain output of an internal comparator. PGOOD remains low until the FB pin is within 9% of the final regulation voltage. PGOOD is valid when the LT3971 is enabled and VIN is above 4.3V.", 10 SYNC (in) "This is the external clock synchronization input. Ground this pin for low ripple Burst Mode operation at low output loads. Tie to a clock source for synchronization, which will include pulse-skipping at low output loads. (See Datasheet)", 11 EP (power) "Ground. The exposed pad must be soldered to PCB."

## LT3971EMSE-3.3#TRPBF
designator U?
1.2 A, 2 MHz Step-Down Regulator with 2.8 uA Quiescent Current, 10-pin SOP (MSE-10-EDP), -40 to 125 degC, Pb-Free, Tape and Reel; Manufacturer: Linear Technology; PartNumber: LT3971EMSE-3.3#TRPBF; Frequency Adjust Range: 200kHz - 2MHz; Number of Outputs: 1; DatasheetVersion: Rev. D; PackageVersion: Rev. I, 05/2013; PackageReference: MSE-10; PackageDescription: 10-Pin Plastic MSOP, Exposed Die Pad, Body 3 x 3 mm, Pitch 0.5 mm; Supplier 1: Digi-Key; Supplier Part Number 1: LT3971EMSE-3.3#TRPBF-ND; Packing: Tape and Reel; RoHS: TRUE; Mounting Technology: Surface Mount; ComponentLink1Description: Manufacturer URL; ComponentLink1URL: http://www.linear.com/; ComponentLink2Description: Datasheet; ComponentLink2URL: http://cds.linear.com/docs/en/datasheet/3971fd.pdf; ComponentLink3Description: Package Specification; ComponentLink3URL: http://cds.linear.com/docs/en/packaging/05081664_I_MSE.pdf
footprint LT-MSE-10-EDP_N (SOP, 10-Leads, Body 3.1x3.1mm, Pitch 0.5mm, Thermal Pad 1.88x1.68mm, IPC Medium Density)
footprint LT-MSE-10-EDP_L (SOP, 10-Leads, Body 3.1x3.1mm, Pitch 0.5mm, Thermal Pad 1.88x1.68mm, IPC High Density)
footprint LT-MSE-10-EDP_M (SOP, 10-Leads, Body 3.1x3.1mm, Pitch 0.5mm, Thermal Pad 1.88x1.68mm, IPC Low Density)
pins: 1 BD (power) "This pin connects to the anode of the boost diode. The BD pin is normally connected to the output.", 2 BOOST "This pin is used to provide a drive voltage, higher than the input voltage, to the internal bipolar NPN power switch.", 3 SW (power) "The SW pin is the output of an internal power switch. Connect this pin to the inductor, catch diode, and boost capacitor.", 4 VIN (power) "The VIN pin supplies current to the LT3971’s internal circuitry and to the internal power switch. This pin must be locally bypassed.", 5 EN (in) "The part is in shutdown when this pin is low and active when this pin is high. The hysteretic threshold voltage is 1.005V going up and 0.975V going down. The EN threshold is only accurate when VIN is above 4.3V. If VIN is (See Datasheet)", 6 VOUT (in) "The LT3971-3.3 and LT3971-5 regulate the VOUT pin to 3.3V and 5V respectively. This pin connects to the internal 10Mohm feedback divider that programs the fixed output voltage.", 7 SS (in) "A capacitor is tied between SS and ground to slowly ramp up the peak current limit of the LT3971 on start-up. The soft-start capacitor is only actively discharged when EN is low. The SS pin is released when the EN pin goes (See Datasheet)", 8 RT "A resistor is tied between RT and ground to set the switching frequency.", 9 PG (oc) "The PG pin is the open-drain output of an internal comparator. PGOOD remains low until the FB pin is within 9% of the final regulation voltage. PGOOD is valid when the LT3971 is enabled and VIN is above 4.3V.", 10 SYNC (in) "This is the external clock synchronization input. Ground this pin for low ripple Burst Mode operation at low output loads. Tie to a clock source for synchronization, which will include pulse-skipping at low output loads. (See Datasheet)", 11 EP (power) "Ground. The exposed pad must be soldered to PCB."

## LT3971EMSE-5#PBF
designator U?
1.2 A, 2 MHz Step-Down Regulator with 2.8 uA Quiescent Current, 10-pin SOP (MSE-10-EDP), -40 to 125 degC, Pb-Free; Manufacturer: Linear Technology; PartNumber: LT3971EMSE-5#PBF; Frequency Adjust Range: 200kHz - 2MHz; Number of Outputs: 1; DatasheetVersion: Rev. D; PackageVersion: Rev. I, 05/2013; PackageReference: MSE-10; PackageDescription: 10-Pin Plastic MSOP, Exposed Die Pad, Body 3 x 3 mm, Pitch 0.5 mm; Supplier 1: Digi-Key; Supplier Part Number 1: LT3971EMSE-5#PBF-ND; Supplier 2: Farnell; Supplier Part Number 2: 1867529; Supplier 3: Newark; Supplier Part Number 3: 24T2757; RoHS: TRUE; Mounting Technology: Surface Mount; ComponentLink1Description: Manufacturer URL; ComponentLink1URL: http://www.linear.com/; ComponentLink2Description: Datasheet; ComponentLink2URL: http://cds.linear.com/docs/en/datasheet/3971fd.pdf; ComponentLink3Description: Package Specification; ComponentLink3URL: http://cds.linear.com/docs/en/packaging/05081664_I_MSE.pdf
footprint LT-MSE-10-EDP_N (SOP, 10-Leads, Body 3.1x3.1mm, Pitch 0.5mm, Thermal Pad 1.88x1.68mm, IPC Medium Density)
footprint LT-MSE-10-EDP_L (SOP, 10-Leads, Body 3.1x3.1mm, Pitch 0.5mm, Thermal Pad 1.88x1.68mm, IPC High Density)
footprint LT-MSE-10-EDP_M (SOP, 10-Leads, Body 3.1x3.1mm, Pitch 0.5mm, Thermal Pad 1.88x1.68mm, IPC Low Density)
pins: 1 BD (power) "This pin connects to the anode of the boost diode. The BD pin is normally connected to the output.", 2 BOOST "This pin is used to provide a drive voltage, higher than the input voltage, to the internal bipolar NPN power switch.", 3 SW (power) "The SW pin is the output of an internal power switch. Connect this pin to the inductor, catch diode, and boost capacitor.", 4 VIN (power) "The VIN pin supplies current to the LT3971’s internal circuitry and to the internal power switch. This pin must be locally bypassed.", 5 EN (in) "The part is in shutdown when this pin is low and active when this pin is high. The hysteretic threshold voltage is 1.005V going up and 0.975V going down. The EN threshold is only accurate when VIN is above 4.3V. If VIN is (See Datasheet)", 6 VOUT (in) "The LT3971?3.3 and LT3971-5 regulate the VOUT pin to 3.3V and 5V respectively. This pin connects to the internal 10Mohm feedback divider that programs the fixed output voltage.", 7 SS (in) "A capacitor is tied between SS and ground to slowly ramp up the peak current limit of the LT3971 on start-up. The soft-start capacitor is only actively discharged when EN is low. The SS pin is released when the EN pin goes (See Datasheet)", 8 RT "A resistor is tied between RT and ground to set the switching frequency.", 9 PG (oc) "The PG pin is the open-drain output of an internal comparator. PGOOD remains low until the FB pin is within 9% of the final regulation voltage. PGOOD is valid when the LT3971 is enabled and VIN is above 4.3V.", 10 SYNC (in) "This is the external clock synchronization input. Ground this pin for low ripple Burst Mode operation at low output loads. Tie to a clock source for synchronization, which will include pulse-skipping at low output loads. (See Datasheet)", 11 EP (power) "Ground. The exposed pad must be soldered to PCB."

## LT3971EMSE-5#TRPBF
designator U?
1.2 A, 2 MHz Step-Down Regulator with 2.8 uA Quiescent Current, 10-pin SOP (MSE-10-EDP), -40 to 125 degC, Pb-Free, Tape and Reel; Manufacturer: Linear Technology; PartNumber: LT3971EMSE-5#TRPBF; Frequency Adjust Range: 200kHz - 2MHz; Number of Outputs: 1; DatasheetVersion: Rev. D; PackageVersion: Rev. I, 05/2013; PackageReference: MSE-10; PackageDescription: 10-Pin Plastic MSOP, Exposed Die Pad, Body 3 x 3 mm, Pitch 0.5 mm; Supplier 1: Digi-Key; Supplier Part Number 1: LT3971EMSE-5#TRPBF-ND; Packing: Tape and Reel; RoHS: TRUE; Mounting Technology: Surface Mount; ComponentLink1Description: Manufacturer URL; ComponentLink1URL: http://www.linear.com/; ComponentLink2Description: Datasheet; ComponentLink2URL: http://cds.linear.com/docs/en/datasheet/3971fd.pdf; ComponentLink3Description: Package Specification; ComponentLink3URL: http://cds.linear.com/docs/en/packaging/05081664_I_MSE.pdf
footprint LT-MSE-10-EDP_N (SOP, 10-Leads, Body 3.1x3.1mm, Pitch 0.5mm, Thermal Pad 1.88x1.68mm, IPC Medium Density)
footprint LT-MSE-10-EDP_L (SOP, 10-Leads, Body 3.1x3.1mm, Pitch 0.5mm, Thermal Pad 1.88x1.68mm, IPC High Density)
footprint LT-MSE-10-EDP_M (SOP, 10-Leads, Body 3.1x3.1mm, Pitch 0.5mm, Thermal Pad 1.88x1.68mm, IPC Low Density)
pins: 1 BD (power) "This pin connects to the anode of the boost diode. The BD pin is normally connected to the output.", 2 BOOST "This pin is used to provide a drive voltage, higher than the input voltage, to the internal bipolar NPN power switch.", 3 SW (power) "The SW pin is the output of an internal power switch. Connect this pin to the inductor, catch diode, and boost capacitor.", 4 VIN (power) "The VIN pin supplies current to the LT3971’s internal circuitry and to the internal power switch. This pin must be locally bypassed.", 5 EN (in) "The part is in shutdown when this pin is low and active when this pin is high. The hysteretic threshold voltage is 1.005V going up and 0.975V going down. The EN threshold is only accurate when VIN is above 4.3V. If VIN is (See Datasheet)", 6 VOUT (in) "The LT3971?3.3 and LT3971-5 regulate the VOUT pin to 3.3V and 5V respectively. This pin connects to the internal 10Mohm feedback divider that programs the fixed output voltage.", 7 SS (in) "A capacitor is tied between SS and ground to slowly ramp up the peak current limit of the LT3971 on start-up. The soft-start capacitor is only actively discharged when EN is low. The SS pin is released when the EN pin goes (See Datasheet)", 8 RT "A resistor is tied between RT and ground to set the switching frequency.", 9 PG (oc) "The PG pin is the open-drain output of an internal comparator. PGOOD remains low until the FB pin is within 9% of the final regulation voltage. PGOOD is valid when the LT3971 is enabled and VIN is above 4.3V.", 10 SYNC (in) "This is the external clock synchronization input. Ground this pin for low ripple Burst Mode operation at low output loads. Tie to a clock source for synchronization, which will include pulse-skipping at low output loads. (See Datasheet)", 11 EP (power) "Ground. The exposed pad must be soldered to PCB."

## LT3971IDD#PBF
designator U?
1.2 A, 2 MHz Step-Down Regulator with 2.8 uA Quiescent Current, 10-pin SON (DD-10), -40 to 125 degC, Pb-Free; Manufacturer: Linear Technology; PartNumber: LT3971IDD#PBF; Frequency Adjust Range: 200kHz - 2MHz; Number of Outputs: 1; DatasheetVersion: Rev. D; PackageVersion: Rev. C, 06/2010; PackageReference: DD-10; PackageDescription: 10-Pin Plastic DFN, Body 3 x 3 mm, Pitch 0.5 mm; Supplier 1: Digi-Key; Supplier Part Number 1: LT3971IDD#PBF-ND; Supplier 2: Newark; Supplier Part Number 2: 13T8583; RoHS: TRUE; Mounting Technology: Surface Mount; Code_JEDEC: MO-229; ComponentLink1Description: Manufacturer URL; ComponentLink1URL: http://www.linear.com/; ComponentLink2Description: Datasheet; ComponentLink2URL: http://cds.linear.com/docs/en/datasheet/3971fd.pdf; ComponentLink3Description: Package Specification; ComponentLink3URL: http://cds.linear.com/docs/en/packaging/DFN_10_05-08-1699.pdf
footprint LT-DD-10_V (SON, 10-Leads, Body 3x3mm, Pitch 0.5mm, Thermal Pad 2.38x1.65mm)
pins: 1 BD (power) "This pin connects to the anode of the boost diode. The BD pin is normally connected to the output.", 2 BOOST "This pin is used to provide a drive voltage, higher than the input voltage, to the internal bipolar NPN power switch.", 3 SW (power) "The SW pin is the output of an internal power switch. Connect this pin to the inductor, catch diode, and boost capacitor.", 4 VIN (power), 5 EN (in), 6 FB (in), 7 SS (in), 8 RT "A resistor is tied between RT and ground to set the switching frequency.", 9 PG (oc), 10 SYNC (in) "This is the external clock synchronization input. Ground this pin for low ripple Burst Mode operation at low output loads. Tie to a clock source for synchronization, which will include pulse-skipping at low output loads. (See Datasheet)", 11 EP (power) "Ground. The exposed pad must be soldered to PCB."

## LT3971IDD#TRPBF
designator U?
1.2 A, 2 MHz Step-Down Regulator with 2.8 uA Quiescent Current, 10-pin SON (DD-10), -40 to 125 degC, Pb-Free, Tape and Reel; Manufacturer: Linear Technology; PartNumber: LT3971IDD#TRPBF; Frequency Adjust Range: 200kHz - 2MHz; Number of Outputs: 1; DatasheetVersion: Rev. D; PackageVersion: Rev. C, 06/2010; PackageReference: DD-10; PackageDescription: 10-Pin Plastic DFN, Body 3 x 3 mm, Pitch 0.5 mm; Supplier 1: Digi-Key; Supplier Part Number 1: LT3971IDD#TRPBF-ND; Supplier 2: Newark; Supplier Part Number 2: 13T8584; Packing: Tape and Reel; RoHS: TRUE; Mounting Technology: Surface Mount; Code_JEDEC: MO-229; ComponentLink1Description: Manufacturer URL; ComponentLink1URL: http://www.linear.com/; ComponentLink2Description: Datasheet; ComponentLink2URL: http://cds.linear.com/docs/en/datasheet/3971fd.pdf; ComponentLink3Description: Package Specification; ComponentLink3URL: http://cds.linear.com/docs/en/packaging/DFN_10_05-08-1699.pdf
footprint LT-DD-10_V (SON, 10-Leads, Body 3x3mm, Pitch 0.5mm, Thermal Pad 2.38x1.65mm)
pins: 1 BD (power) "This pin connects to the anode of the boost diode. The BD pin is normally connected to the output.", 2 BOOST "This pin is used to provide a drive voltage, higher than the input voltage, to the internal bipolar NPN power switch.", 3 SW (power) "The SW pin is the output of an internal power switch. Connect this pin to the inductor, catch diode, and boost capacitor.", 4 VIN (power), 5 EN (in), 6 FB (in), 7 SS (in), 8 RT "A resistor is tied between RT and ground to set the switching frequency.", 9 PG (oc), 10 SYNC (in) "This is the external clock synchronization input. Ground this pin for low ripple Burst Mode operation at low output loads. Tie to a clock source for synchronization, which will include pulse-skipping at low output loads. (See Datasheet)", 11 EP (power) "Ground. The exposed pad must be soldered to PCB."

## LT3971IDD-3.3#PBF
designator U?
1.2 A, 2 MHz Step-Down Regulator with 2.8 uA Quiescent Current, 10-pin SON (DD-10), -40 to 125 degC, Pb-Free; Manufacturer: Linear Technology; PartNumber: LT3971IDD-3.3#PBF; Frequency Adjust Range: 200kHz - 2MHz; Number of Outputs: 1; DatasheetVersion: Rev. D; PackageVersion: Rev. C, 06/2010; PackageReference: DD-10; PackageDescription: 10-Pin Plastic DFN, Body 3 x 3 mm, Pitch 0.5 mm; Supplier 1: Digi-Key; Supplier Part Number 1: LT3971IDD-3.3#PBF-ND; RoHS: TRUE; Mounting Technology: Surface Mount; Code_JEDEC: MO-229; ComponentLink1Description: Manufacturer URL; ComponentLink1URL: http://www.linear.com/; ComponentLink2Description: Datasheet; ComponentLink2URL: http://cds.linear.com/docs/en/datasheet/3971fd.pdf; ComponentLink3Description: Package Specification; ComponentLink3URL: http://cds.linear.com/docs/en/packaging/DFN_10_05-08-1699.pdf
footprint LT-DD-10_V (SON, 10-Leads, Body 3x3mm, Pitch 0.5mm, Thermal Pad 2.38x1.65mm)
pins: 1 BD (power) "This pin connects to the anode of the boost diode. The BD pin is normally connected to the output.", 2 BOOST "This pin is used to provide a drive voltage, higher than the input voltage, to the internal bipolar NPN power switch.", 3 SW (power) "The SW pin is the output of an internal power switch. Connect this pin to the inductor, catch diode, and boost capacitor.", 4 VIN (power) "The VIN pin supplies current to the LT3971’s internal circuitry and to the internal power switch. This pin must be locally bypassed.", 5 EN (in) "The part is in shutdown when this pin is low and active when this pin is high. The hysteretic threshold voltage is 1.005V going up and 0.975V going down. The EN threshold is only accurate when VIN is above 4.3V. If VIN is (See Datasheet)", 6 VOUT (in) "The LT3971-3.3 and LT3971-5 regulate the VOUT pin to 3.3V and 5V respectively. This pin connects to the internal 10Mohm feedback divider that programs the fixed output voltage.", 7 SS (in) "A capacitor is tied between SS and ground to slowly ramp up the peak current limit of the LT3971 on start-up. The soft-start capacitor is only actively discharged when EN is low. The SS pin is released when the EN pin goes (See Datasheet)", 8 RT "A resistor is tied between RT and ground to set the switching frequency.", 9 PG (oc) "The PG pin is the open-drain output of an internal comparator. PGOOD remains low until the FB pin is within 9% of the final regulation voltage. PGOOD is valid when the LT3971 is enabled and VIN is above 4.3V.", 10 SYNC (in) "This is the external clock synchronization input. Ground this pin for low ripple Burst Mode operation at low output loads. Tie to a clock source for synchronization, which will include pulse-skipping at low output loads. (See Datasheet)", 11 EP (power) "Ground. The exposed pad must be soldered to PCB."

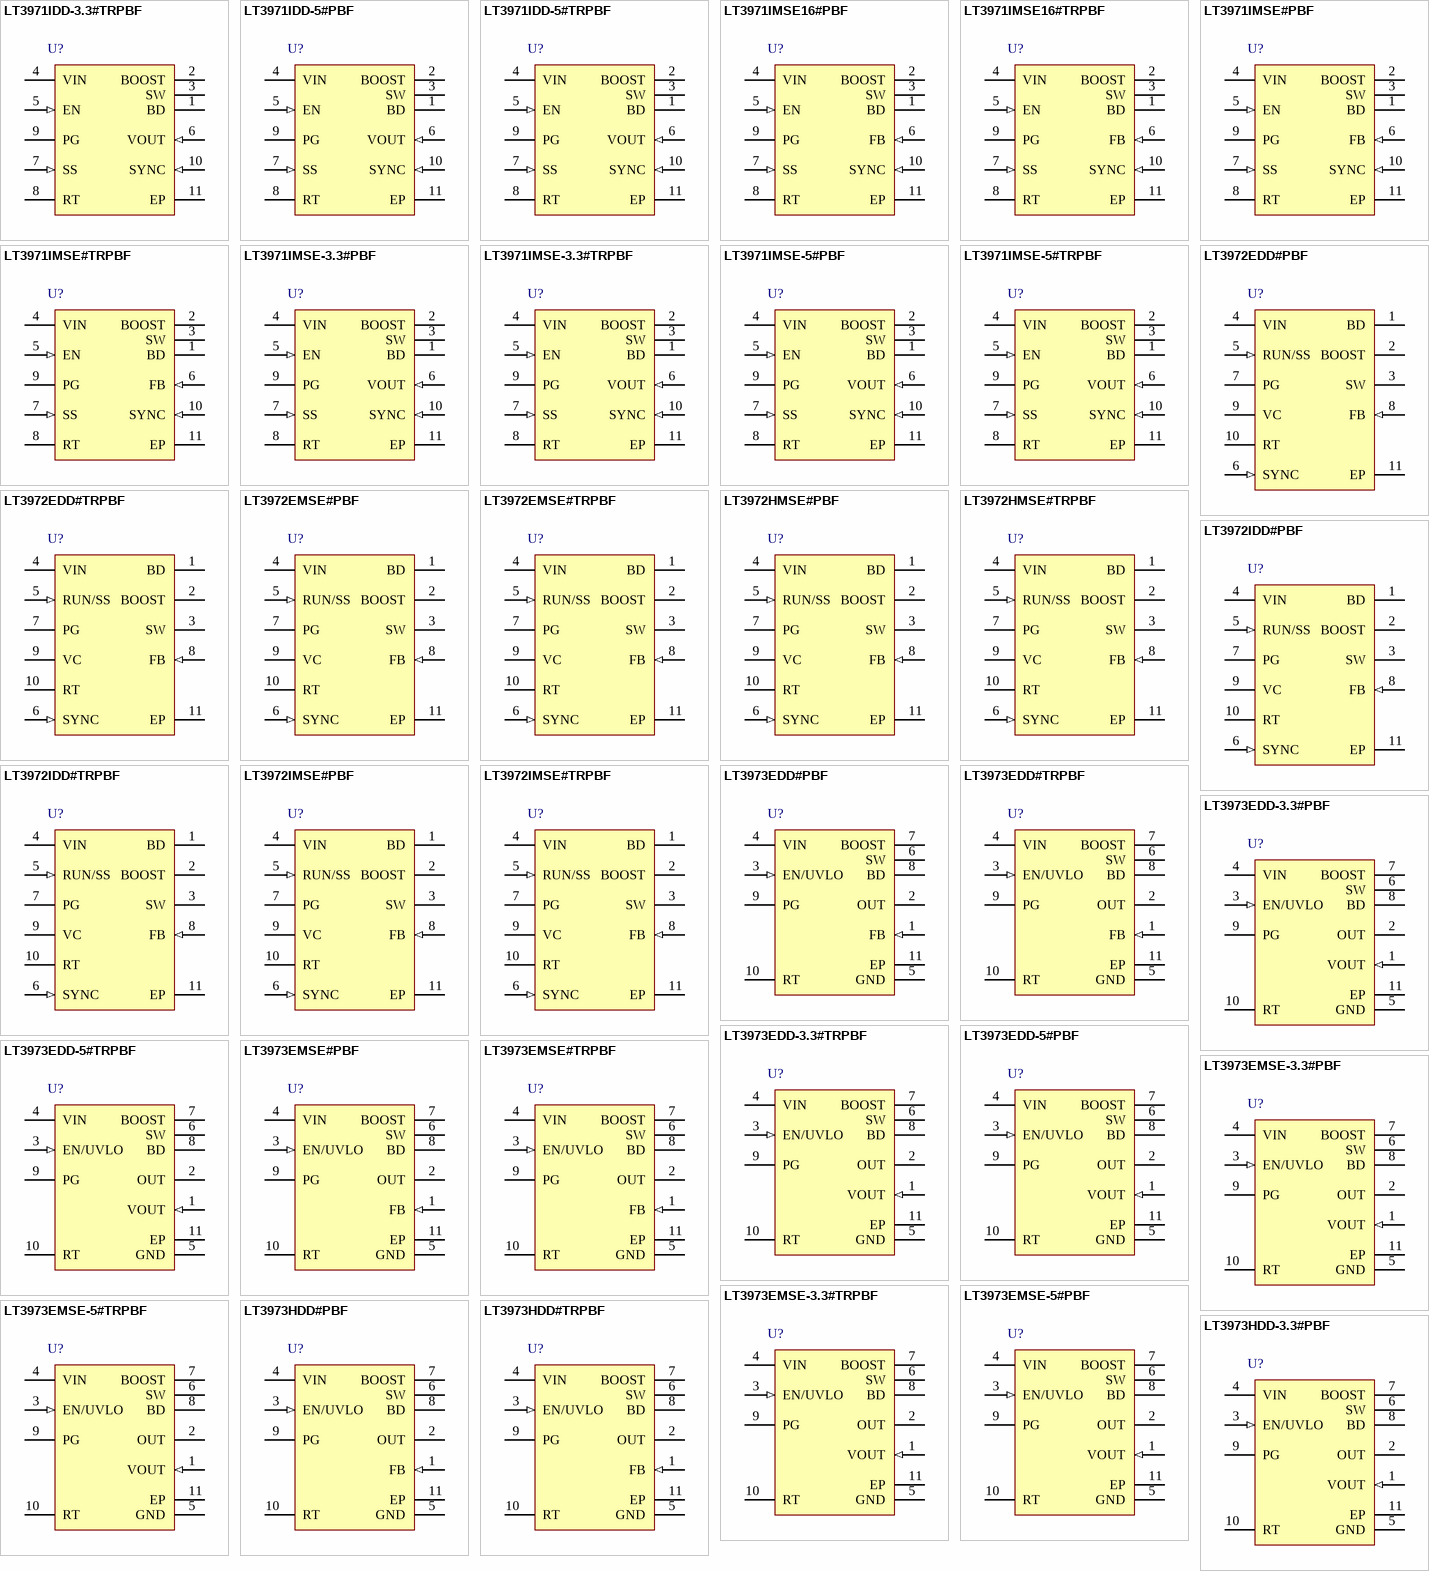
[diagram p64: symbols LT3971IDD-3.3#TRPBF to LT3973HDD-3.3#PBF]